# Altium schematic symbol library resistor through hole.SchLib: 1 symbol
Pins are listed as number, name and electrical type; pins without a type are passive.

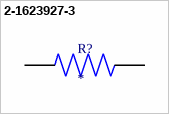
[diagram p0: symbol 2-1623927-3]

## 2-1623927-3
designator R?
Carbon Film Resistors - Through Hole 1K Ohm 5% 1/4W Res Carbon Film; Power_Rating: .25 W; MF: TE Connectivity; MP: 2-1623927-3; Voltage_Rating: 200 V; SnapEDA_Link: https://www.snapeda.com/parts/2-1623927-3/TE+Connectivity/view-part/?ref=snap; Package: None; Resistance: 1K; Value: *; EU_RoHS_Compliance: Compliant; Tolerance: 5%; Check_prices: https://www.snapeda.com/parts/2-1623927-3/TE+Connectivity/view-part/?ref=eda
footprint RESAD700W45L350D185
pins: 1, 2